# Altium schematic symbol library Transformers.SchLib: 2 symbols
Pins are listed as number, name and electrical type; pins without a type are passive.

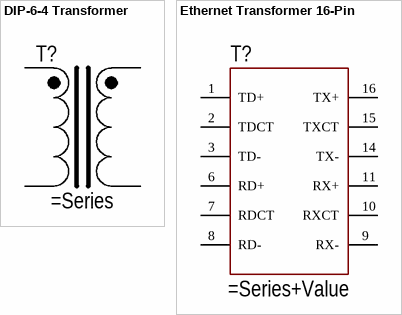
[diagram p0: symbols DIP-6-4 Transformer to Ethernet Transformer 16-Pin]

## DIP-6-4 Transformer
designator T?
DIP-6-4 Transformer Schematic Symbol
pins: 1 PrimaryDot, 3 Primary, 4 Secondary, 6 SecondaryDot

## Ethernet Transformer 16-Pin
designator T?
Generic Ethernet Line Transformer 16-Pin
pins: 1 TD+, 2 TDCT, 3 TD-, 6 RD+, 7 RDCT, 8 RD-, 9 RX-, 10 RXCT, 11 RX+, 14 TX-, 15 TXCT, 16 TX+